# EAGLE library part LED-CCL (library led-ccl)
LED-CCL Device for Top-Up Industry Corp's LED-CCL line of produts. Device includes no-holes variants in which the holes for the alignment tabs are not included.
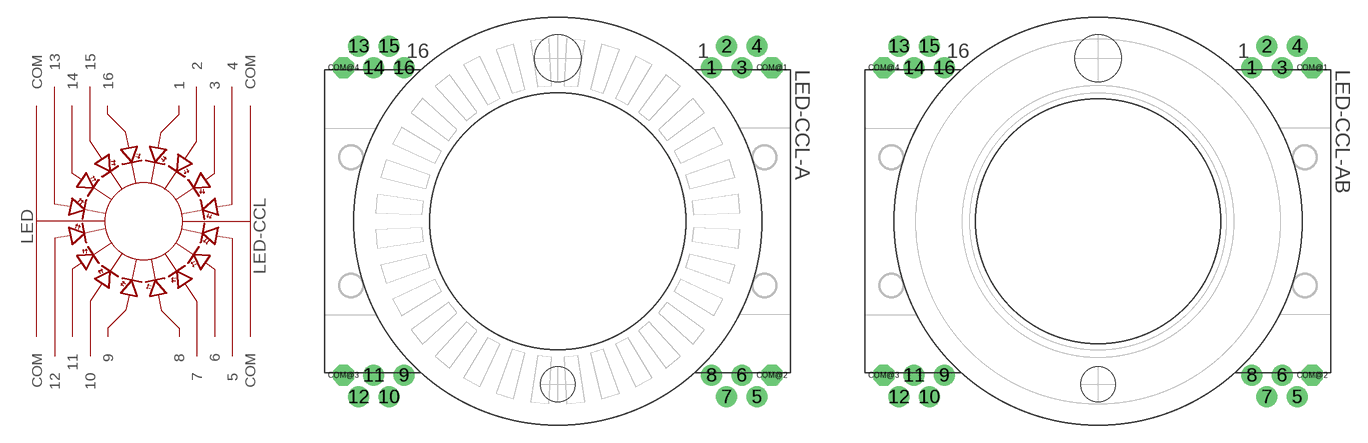
[diagram p0: symbol with the pads of LED-CCL-A; footprints LED-CCL-A, LED-CCL-AB]

Designator prefix LED

## LED-CCL-A  [LED-CCL-A]
1  1  pas
2  2  pas
3  3  pas
4  4  pas
5  5  pas
6  6  pas
7  7  pas
8  8  pas
9  9  pas
10  10  pas
11  11  pas
12  12  pas
13  13  pas
14  14  pas
15  15  pas
16  16  pas
COM@1  COM  pas
COM@2  COM  pas
COM@3  COM  pas
COM@4  COM  pas

## LED-CCL-AB  [LED-CCL-AB]
Pads as for LED-CCL-A

## LED-CCL-AB-NOHOLES  [LED-CCL-AB_NOHOLES]
Pads as for LED-CCL-A

## LED-CCL-A-NOHOLES  [LED-CCL-A_NOHOLES]
Pads as for LED-CCL-A

## LED-CCL-M  [LED-CCL-M]
Pads as for LED-CCL-A

## LED-CCL-MB  [LED-CCL-MB]
Pads as for LED-CCL-A

## LED-CCL-MB-NOHOLES  [LED-CCL-MB_NOHOLES]
Pads as for LED-CCL-A

## LED-CCL-M-NOHOLES  [LED-CCL-M_NOHOLES]
Pads as for LED-CCL-A

## Footprint LED-CCL-A (pad centres in mm)
LED-CCL-A Package for Top-Up Industry Corp's LED-CCL-A LED Indicator Circle. Mounting holes included. Restrict: 0.25mm.
drill 1.2 round: 1 13.2,13.2; 2 14.5,15.05; 3 15.8,13.2; 4 17.1,15.05; 5 17.1,-15.05; 6 15.8,-13.2; 7 14.5,-15.05; 8 13.2,-13.2; 9 -13.2,-13.2; 10 -14.5,-15.05; 11 -15.8,-13.2; 12 -17.1,-15.05; 13 -17.1,15.05; 14 -15.8,13.2; 15 -14.5,15.05; 16 -13.2,13.2
drill 1.2 octagon: COM@1 18.4,13.2; COM@2 18.4,-13.2; COM@3 -18.4,-13.2; COM@4 -18.4,13.2
hole 3 at 0,-14
hole 4 at 0,14

## Footprint LED-CCL-AB (pad centres in mm)
LED-CCL-AB Package for Top-Up Industry Corp's LED-CCL-AB LED Indicator Circle. Mounting holes included. Restrict: 0.25mm.
drill 1.2 round: 1 13.2,13.2; 2 14.5,15.05; 3 15.8,13.2; 4 17.1,15.05; 5 17.1,-15.05; 6 15.8,-13.2; 7 14.5,-15.05; 8 13.2,-13.2; 9 -13.2,-13.2; 10 -14.5,-15.05; 11 -15.8,-13.2; 12 -17.1,-15.05; 13 -17.1,15.05; 14 -15.8,13.2; 15 -14.5,15.05; 16 -13.2,13.2
drill 1.2 octagon: COM@1 18.4,13.2; COM@2 18.4,-13.2; COM@3 -18.4,-13.2; COM@4 -18.4,13.2
hole 3 at 0,-14
hole 4 at 0,14

## Footprint LED-CCL-AB_NOHOLES (pad centres in mm)
LED-CCL-AB (no holes) Package for Top-Up Industry Corp's LED-CCL-AB LED Indicator Circle. This variant does not include the alignment holes for the product. Use the marks in the tDocu layer for manual mounting hole placement.
drill 1.2 round: 1 13.2,13.2; 2 14.5,15.05; 3 15.8,13.2; 4 17.1,15.05; 5 17.1,-15.05; 6 15.8,-13.2; 7 14.5,-15.05; 8 13.2,-13.2; 9 -13.2,-13.2; 10 -14.5,-15.05; 11 -15.8,-13.2; 12 -17.1,-15.05; 13 -17.1,15.05; 14 -15.8,13.2; 15 -14.5,15.05; 16 -13.2,13.2
drill 1.2 octagon: COM@1 18.4,13.2; COM@2 18.4,-13.2; COM@3 -18.4,-13.2; COM@4 -18.4,13.2

## Footprint LED-CCL-A_NOHOLES (pad centres in mm)
LED-CCL-A (no holes) Package for Top-Up Industry Corp's LED-CCL-A LED Indicator Circle. This variant does not include the alignment holes for the product. Use the marks in the tDocu layer for manual mounting hole placement.
drill 1.2 round: 1 13.2,13.2; 2 14.5,15.05; 3 15.8,13.2; 4 17.1,15.05; 5 17.1,-15.05; 6 15.8,-13.2; 7 14.5,-15.05; 8 13.2,-13.2; 9 -13.2,-13.2; 10 -14.5,-15.05; 11 -15.8,-13.2; 12 -17.1,-15.05; 13 -17.1,15.05; 14 -15.8,13.2; 15 -14.5,15.05; 16 -13.2,13.2
drill 1.2 octagon: COM@1 18.4,13.2; COM@2 18.4,-13.2; COM@3 -18.4,-13.2; COM@4 -18.4,13.2

## Footprint LED-CCL-M (pad centres in mm)
LED-CCL-M Package for Top-Up Industry Corp's LED-CCL-M LED Indicator Circle. Mounting holes included. Restrict: 0.25mm.
smd 0.9 x 2.5: 1 13.2,14.45; 2 14.5,14.45; 3 15.8,14.45; 4 17.1,14.45; 5 17.1,-14.45; 6 15.8,-14.45; 7 14.5,-14.45; 8 13.2,-14.45; 9 -13.2,-14.45; 10 -14.5,-14.45; 11 -15.8,-14.45; 12 -17.1,-14.45; 13 -17.1,14.55; 14 -15.8,14.55; 15 -14.5,14.55; 16 -13.2,14.55; COM@1 18.4,14.45; COM@2 18.4,-14.45; COM@3 -18.4,-14.45; COM@4 -18.4,14.55
hole 3 at 0,-14
hole 4 at 0,14

## Footprint LED-CCL-MB (pad centres in mm)
LED-CCL-MB Package for Top-Up Industry Corp's LED-CCL-MB LED Indicator Circle. Mounting holes included. Restrict: 0.25mm.
smd 0.9 x 2.5: 1 13.2,14.45; 2 14.5,14.45; 3 15.8,14.45; 4 17.1,14.45; 5 17.1,-14.45; 6 15.8,-14.45; 7 14.5,-14.45; 8 13.2,-14.45; 9 -13.2,-14.45; 10 -14.5,-14.45; 11 -15.8,-14.45; 12 -17.1,-14.45; 13 -17.1,14.55; 14 -15.8,14.55; 15 -14.5,14.55; 16 -13.2,14.55; COM@1 18.4,14.45; COM@2 18.4,-14.45; COM@3 -18.4,-14.45; COM@4 -18.4,14.55
hole 3 at 0,-14
hole 4 at 0,14

## Footprint LED-CCL-MB_NOHOLES (pad centres in mm)
LED-CCL-MB (no holes) Package for Top-Up Industry Corp's LED-CCL-MB LED Indicator Circle. This variant does not include the alignment holes for the product. Use the marks in the tDocu layer for manual mounting hole placement.
smd 0.9 x 2.5: 1 13.2,14.45; 2 14.5,14.45; 3 15.8,14.45; 4 17.1,14.45; 5 17.1,-14.45; 6 15.8,-14.45; 7 14.5,-14.45; 8 13.2,-14.45; 9 -13.2,-14.45; 10 -14.5,-14.45; 11 -15.8,-14.45; 12 -17.1,-14.45; 13 -17.1,14.55; 14 -15.8,14.55; 15 -14.5,14.55; 16 -13.2,14.55; COM@1 18.4,14.45; COM@2 18.4,-14.45; COM@3 -18.4,-14.45; COM@4 -18.4,14.55

## Footprint LED-CCL-M_NOHOLES (pad centres in mm)
LED-CCL-M (no holes) Package for Top-Up Industry Corp's LED-CCL-M LED Indicator Circle. This variant does not include the alignment holes for the product. Use the marks in the tDocu layer for manual mounting hole placement.
smd 0.9 x 2.5: 1 13.2,14.45; 2 14.5,14.45; 3 15.8,14.45; 4 17.1,14.45; 5 17.1,-14.45; 6 15.8,-14.45; 7 14.5,-14.45; 8 13.2,-14.45; 9 -13.2,-14.45; 10 -14.5,-14.45; 11 -15.8,-14.45; 12 -17.1,-14.45; 13 -17.1,14.55; 14 -15.8,14.55; 15 -14.5,14.55; 16 -13.2,14.55; COM@1 18.4,14.45; COM@2 18.4,-14.45; COM@3 -18.4,-14.45; COM@4 -18.4,14.55